# Altium footprint library _Geeky_ PCB copy_2023-02-18.PcbLib: 25 footprints (part 2 of 2)
Each footprint in its own frame and in the unit in brackets; x right, y up, seen from the top. Pads: shape width x height; smd on the part's side, far side on the other; paste and mask are expansions set on the pad; w line width, h text height; cw(c..) or ccw(c..) is an arc to the next point about the centre after c.
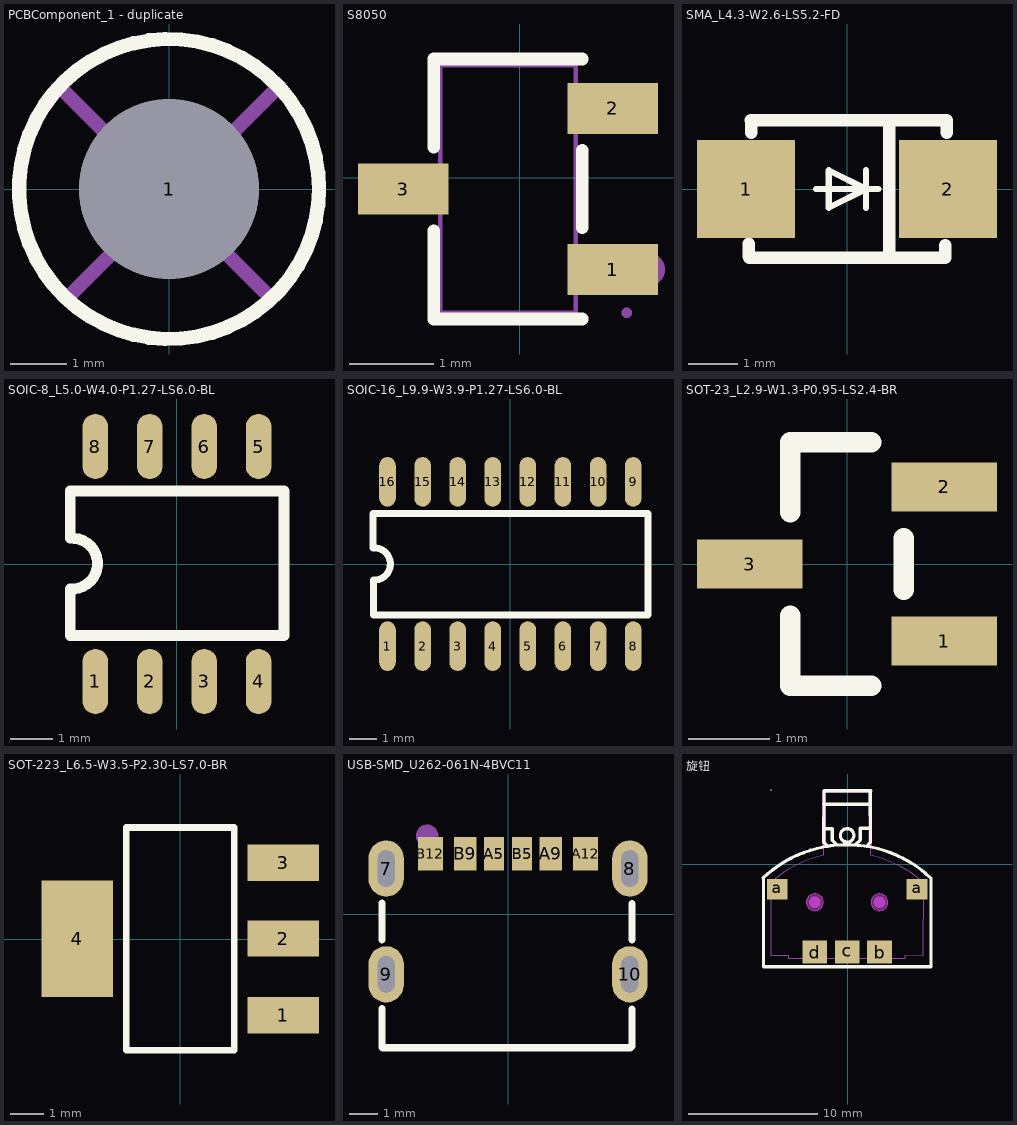
[diagram p1: the footprints below, top view; thin cyan lines are the x and y axes]

## PCBComponent_1 - duplicate [mm]
pads (1):
  round 3.2 hole 3.2: 1(0,0)
Top Overlay:
  circle w0.254: c0,0 r2.667
Mechanical 15:
  lines w0.254: -1.905,1.778 1.778,-1.905 ; -1.778,-1.905 1.905,1.778

## S8050 [mm]
pads (3):
  rect 1.07x0.6 smd mask+0.051: 1(1.095,-1.083) 2(1.095,0.817) 3(-1.375,-0.133)
Top Overlay:
  lines w0.152: -1.017,-0.628 -1.017,-1.669 0.736,-1.669 ; -1.017,0.361 -1.017,1.403 0.736,1.403 ; 0.736,-0.589 0.736,0.322
Mechanical 6:
  circle w0.2: c1.511,-1.083 r0.1
Mechanical 15:
  region: 1.32,-1.593 1.32,-1.568 1.285,-1.533 1.235,-1.533 1.2,-1.568 1.2,-1.593 1.2,-1.618 1.235,-1.653 1.285,-1.653 1.32,-1.618 1.32,-1.593
  region: 0.81,-1.283 0.81,-0.883 1.26,-0.883 1.26,-1.283
  region: 0.65,-1.283 0.65,-0.883 0.82,-0.883 0.82,-1.283
  region: 0.81,0.617 0.81,1.017 1.26,1.017 1.26,0.617
  region: 0.65,0.617 0.65,1.017 0.82,1.017 0.82,0.617
  region: -1.09,-0.333 -1.09,0.067 -1.54,0.067 -1.54,-0.333
  region: -1.1,-0.333 -1.1,0.067 -0.93,0.067 -0.93,-0.333
  lines w0.051: -0.94,-1.593 -0.94,1.327 0.66,1.327 0.66,-1.593 -0.94,-1.593

## SMA_L4.3-W2.6-LS5.2-FD [mm]
pads (2):
  rect 2x2 smd: 1(-2.057,0) 2(2.057,0)
Top Overlay:
  lines w0.127: -0.627,0 0.643,0 ; 0.389,-0.381 0.389,0 ; 0.389,0.381 0.389,0 ; 0.389,0 -0.373,-0.381 -0.373,0 -0.373,0.381 0.389,0
  lines w0.254: -2.007,-1.367 -2.007,-1.118 ; -1.991,-1.397 2.007,-1.397 2.007,-1.147 ; -1.966,1.397 2.032,1.397 2.032,1.147 ; -1.956,1.147 -1.956,1.397 ; 0.864,-1.245 0.864,1.245

## SOIC-8_L5.0-W4.0-P1.27-LS6.0-BL [mm]
pads (8):
  oval 0.6x1.52 smd: 1(-1.905,-2.74) 2(-0.635,-2.74) 3(0.635,-2.74) 4(1.905,-2.74) 5(1.905,2.74) 6(0.635,2.74) 7(-0.635,2.74) 8(-1.905,2.74)
Top Overlay:
  lines w0.254: -2.49,-1.671 -2.49,-0.58 ccw(c-2.445,0.01) -2.49,0.6 -2.49,1.7 2.5,1.7 2.5,-1.671 -2.49,-1.671

## SOIC-16_L9.9-W3.9-P1.27-LS6.0-BL [mm]
pads (16):
  oval 0.6x1.8 smd: 1(-4.445,-2.972) 2(-3.175,-2.972) 3(-1.905,-2.972) 4(-0.635,-2.972) 5(0.635,-2.972) 6(1.905,-2.972) 7(3.175,-2.972) 8(4.445,-2.972) 9(4.445,2.972) 10(3.175,2.972) 11(1.905,2.972) 12(0.635,2.972) 13(-0.635,2.972) 14(-1.905,2.972) 15(-3.175,2.972) 16(-4.445,2.972)
Top Overlay:
  lines w0.254: -4.976,0.584 -4.976,1.829 4.976,1.829 4.976,-1.854 -4.928,-1.854 ; -4.953,-1.854 -4.953,-0.584 ccw(c-4.928,0) -4.95,0.584

## SOT-23_L2.9-W1.3-P0.95-LS2.4-BR [mm]
pads (3):
  rect 1.3x0.6 smd: 1(1.2,-0.95) 2(1.2,0.95) 3(-1.2,0)
Top Overlay:
  lines w0.254: -0.7,-0.636 -0.7,-1.5 0.3,-1.5 ; -0.7,0.636 -0.7,1.5 0.3,1.5 ; 0.7,-0.314 0.7,0.314

## SOT-223_L6.5-W3.5-P2.30-LS7.0-BR [mil]
pads (4):
  rect 85x43 smd: 1(122,-90.5) 2(122,0.5) 3(122,90.5)
  rect 85x138 smd: 4(-122,0.5)
Top Overlay:
  lines w7.9: -63.8,-131.7 -63.8,132.1 64.1,132.1 64.1,-131.7 -63.8,-131.7

## USB-SMD_U262-061N-4BVC11 [mm]
pads (10):
  oval 1.25x2 hole 0.6 slot 1.3 at 90 deg: 7(-4.32,1.611) 8(4.32,1.611) 9(-4.32,-2.139) 10(4.32,-2.139)
  rect 0.7x1.2 smd: A5(-0.5,2.139) B5(0.5,2.139)
  rect 0.8x1.2 smd: A9(1.52,2.139) B9(-1.52,2.139)
  rect 0.9x1.2 smd: A12(2.75,2.139) B12(-2.75,2.139)
Top Overlay:
  lines w0.254: -4.467,-3.357 -4.467,-4.733 -4.455,-4.746 4.346,-4.746 4.397,-4.695 4.397,-3.367 ; -4.467,-0.921 -4.467,0.393 ; 4.397,-0.911 4.397,0.372
Top Paste:
  drawing of 10 lines, arcs and shapes, not listed
Mechanical 15:
  circle w0.4: c-2.869,2.773 r0.2

## 旋钮 [mm]
pads (5):
  rect 1.6x1.6 smd mask+0.051: a(-5.454,-1.922) a(5.346,-1.922)
  rect 1.9x1.8 smd mask+0.051: b(2.446,-6.772) c(-0.054,-6.772) d(-2.554,-6.772)
Top Overlay:
  circle w0.254: c-0.054,2.245 r0.524
  lines w0.254: -6.537,-1.038 cw(c-0.067,-7.915) 6.423,-1.057 6.423,-7.915 5.026,-7.915 -6.518,-7.915 -6.518,-1.057 ; -1.854,2.759 -1.197,2.759 -1.197,1.87 -0.824,1.496 ; -1.854,4.656 1.746,4.656 ; -1.848,5.688 -1.854,1.737 -1.854,1.702 -1.56,1.408 ; -1.836,5.697 1.765,5.697 ; -0.067,-7.915 -0.067,-7.903 ; -0.033,-7.915 -0.033,-7.903 ; 0.585,1.504 0.962,1.881 0.962,2.793 1.746,2.793 ; 1.44,1.405 1.746,1.711 1.746,1.737 1.736,5.697
Keep-Out Layer:
  board cut-out: 3.096,-2.922 3.096,-2.837 3.052,-2.672 2.966,-2.523 2.845,-2.402 2.697,-2.317 2.531,-2.272 2.36,-2.272 2.195,-2.317 2.047,-2.402 1.926,-2.523 1.84,-2.672 1.796,-2.837 1.796,-2.922 1.796,-3.008 1.84,-3.173 1.926,-3.322 2.047,-3.443 2.195,-3.528 2.36,-3.572 2.531,-3.572 2.697,-3.528 2.845,-3.443 2.966,-3.322 3.052,-3.173 3.096,-3.008 3.096,-2.922
  board cut-out: -1.904,-2.922 -1.904,-2.837 -1.948,-2.672 -2.034,-2.523 -2.155,-2.402 -2.303,-2.317 -2.469,-2.272 -2.64,-2.272 -2.805,-2.317 -2.953,-2.402 -3.074,-2.523 -3.16,-2.672 -3.204,-2.837 -3.204,-2.922 -3.204,-3.008 -3.16,-3.173 -3.074,-3.322 -2.953,-3.443 -2.805,-3.528 -2.64,-3.572 -2.469,-3.572 -2.303,-3.528 -2.155,-3.443 -2.034,-3.322 -1.948,-3.173 -1.904,-3.008 -1.904,-2.922
Mechanical 1:
  circle w0.005: c2.446,-2.922 r0.65
  circle w0.005: c-2.554,-2.922 r0.65
Mechanical 6:
  circle w0.45: c-2.554,-2.922 r0.225
  circle w0.45: c2.446,-2.922 r0.225
  region: -1.846,5.783 1.729,5.783 1.754,5.783 1.801,5.764 1.837,5.728 1.856,5.682 1.856,5.656 1.856,1.527 1.856,1.474 1.782,1.4 1.677,1.4 1.602,1.474 1.602,1.527 1.602,5.529 -1.846,5.529 -1.898,5.529 -1.973,5.604 -1.973,5.709 -1.898,5.783 -1.846,5.783
  region: -1.709,1.527 -1.709,1.501 -1.729,1.455 -1.764,1.419 -1.811,1.4 -1.836,1.4 -1.861,1.4 -1.908,1.419 -1.944,1.455 -1.963,1.501 -1.963,1.527 -1.963,5.628 -1.963,5.654 -1.944,5.7 -1.908,5.736 -1.861,5.755 -1.836,5.755 -1.827,5.755 -1.802,5.755 -1.755,5.736 -1.719,5.7 -1.7,5.654 -1.7,5.628 -1.7,5.622 -1.701,5.61 -1.703,5.598 -1.707,5.586 -1.709,5.58 -1.709,1.527
Mechanical 15:
  region: -5.897,5.77 -5.897,5.795 -5.932,5.83 -5.982,5.83 -6.017,5.795 -6.017,5.77 -6.017,5.745 -5.982,5.71 -5.932,5.71 -5.897,5.745 -5.897,5.77
  region: -3.304,-6.034 -1.804,-6.034 -1.804,-7.234 -3.304,-7.234
  region: -0.804,-6.034 0.696,-6.034 0.696,-7.234 -0.804,-7.234
  region: 1.696,-6.034 3.196,-6.034 3.196,-7.234 1.696,-7.234
  region: -5.957,-1.422 -4.757,-1.422 -4.757,-2.422 -5.957,-2.422
  region: 4.657,-1.422 5.857,-1.422 5.857,-2.422 4.657,-2.422
  lines w0.051: -5.957,-1.386 -5.566,-1.051 -5.088,-0.69 -4.56,-0.347 -4.07,-0.063 -3.531,0.201 -2.965,0.42 -2.431,0.595 -1.855,0.73 -1.853,5.465 -1.548,5.76 1.446,5.77 1.744,5.465 1.746,0.73 2.33,0.594 2.875,0.419 3.581,0.1 4.004,-0.089 4.47,-0.357 4.973,-0.695 5.857,-1.401 5.844,-7.04 4.449,-7.037 4.443,-7.234 -4.554,-7.233 -4.553,-7.036 -5.953,-7.035 -5.957,-1.386